# EAGLE library part ROCKETBOARDS-LTC (library kitt.con)
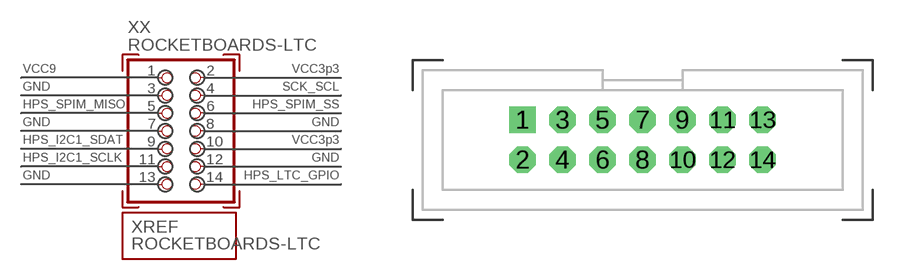
[diagram p4: symbol with the pads of LTC-CONNECTOR; footprint LTC-CONNECTOR]

Designator prefix X; gates X=PINH2X7 REF=GUIDE.ATLAS-LTC

## ROCKETBOARDS-LTCTH (CC: XYX17)  [LTC-CONNECTOR]
1  X:1  pas
2  X:2  pas
3  X:3  pas
4  X:4  pas
5  X:5  pas
6  X:6  pas
7  X:7  pas
8  X:8  pas
9  X:9  pas
10  X:10  pas
11  X:11  pas
12  X:12  pas
13  X:13  pas
14  X:14  pas

## Footprint LTC-CONNECTOR (pad centres in mm)
drill 0.8 square: 1 -6,1
drill 0.8 octagon: 2 -6,-1; 3 -4,1; 4 -4,-1; 5 -2,1; 6 -2,-1; 7 0,1; 8 0,-1; 9 2,1; 10 2,-1; 11 4,1; 12 4,-1; 13 6,1; 14 6,-1